# Altium integrated library Atmel Automotive.IntLib: 43 symbols (part 2 of 2)
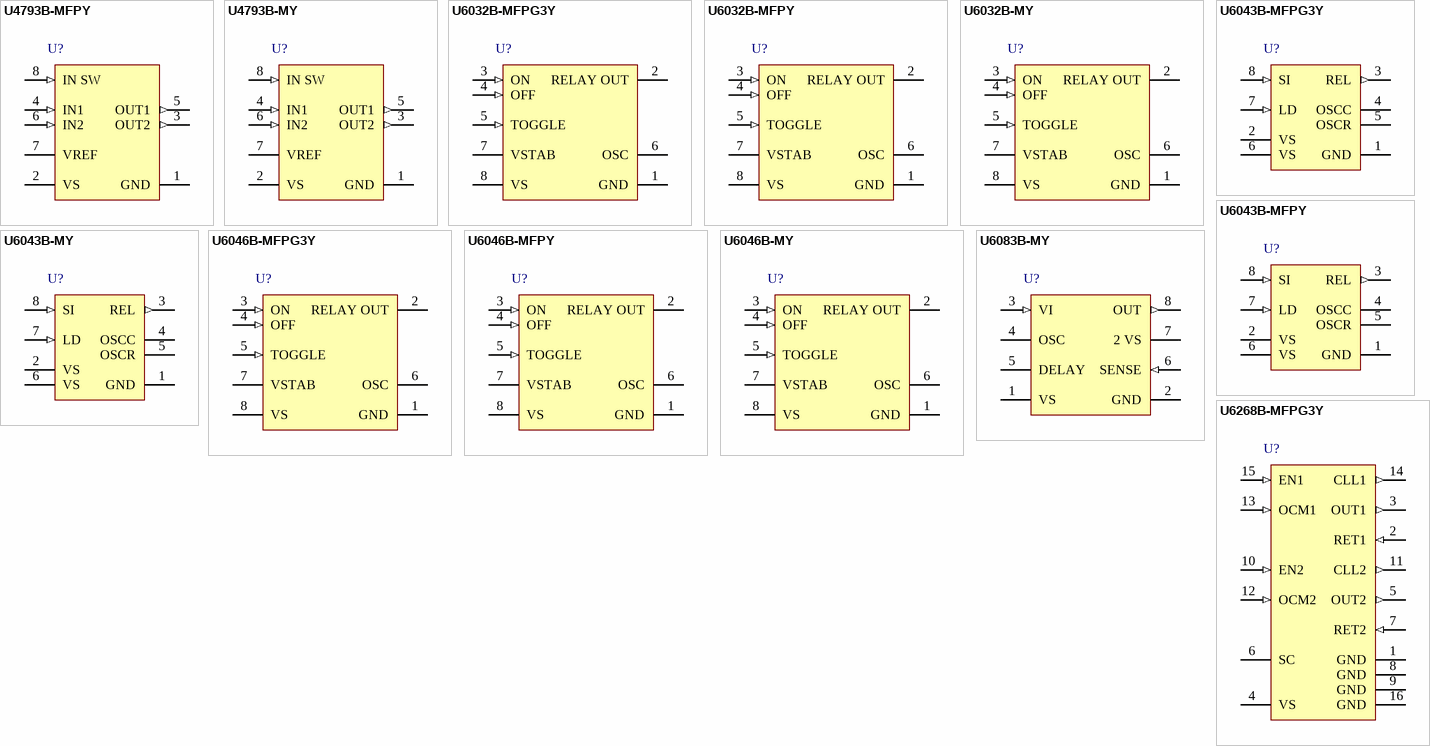
[diagram p2: symbols U4793B-MFPY to U6268B-MFPG3Y]

## U6046B-MFPY
designator U?
Rear Window Heating Timer/Long-Term Timer, SO8 Pkg, Tubed, Pb-Free; Published: 20-Sep-2010; DatasheetVersion: revB, Sep-2005; PackageVersion: rev1, Aug-2006; PackageReference: SO8; Publisher: Altium Limited; PackageDescription: 8-Pin Small Outline Integrated Circuit 1.27 mm Pitch; Supplier 1: Mouser; Supplier Part Number 1: 556-U6046BMFPY; ComponentLink1Description: Manufacturer Link; ComponentLink1URL: http://www.atmel.com/products/auto/default.asp?; ComponentLink2Description: U6046B Datasheet; ComponentLink2URL: http://www.atmel.com/dyn/resources/prod_documents/doc4674.pdf; ComponentLink3Description: Atmel.com Home; ComponentLink3URL: http://www.atmel.com
footprint SO8_N (SOIC, 8-Leads, Body 4.9x3.8mm, Pitch 1.27mm, IPC Medium Density)
footprint SO8_L (SOIC, 8-Leads, Body 4.9x3.8mm, Pitch 1.27mm, IPC High Density)
footprint SO8_M (SOIC, 8-Leads, Body 4.9x3.8mm, Pitch 1.27mm, IPC Low Density)
pins: 1 GND (power), 2 RELAY OUT (oc), 3 ON (in), 4 OFF (in), 5 TOGGLE (in), 6 OSC, 7 VSTAB (power), 8 VS (power)

## U6046B-MY
designator U?
Rear Window Heating Timer/Long-Term Timer, DIP8 Pkg, Pb-Free; Published: 20-Sep-2010; DatasheetVersion: revB, Sep-2005; PackageVersion: rev1, Jan-2002; PackageReference: DIP8; Publisher: Altium Limited; PackageDescription: DIP, 8-Pin, Row Spacing 7.62 mm, Pitch 2.54 mm; Supplier 1: Digi-Key; Supplier Part Number 1: U6046B-MY-ND; Supplier 2: Mouser; Supplier Part Number 2: 556-U6046BMY; ComponentLink1Description: Manufacturer Link; ComponentLink1URL: http://www.atmel.com/products/auto/default.asp?; ComponentLink2Description: U6046B Datasheet; ComponentLink2URL: http://www.atmel.com/dyn/resources/prod_documents/doc4674.pdf; ComponentLink3Description: Atmel.com Home; ComponentLink3URL: http://www.atmel.com
footprint DIP8 (DIP, 8-Leads, Row Spacing 7.62mm, Pitch 2.54mm, Body 9.65x6.3mm)
pins: 1 GND (power), 2 RELAY OUT (oc), 3 ON (in), 4 OFF (in), 5 TOGGLE (in), 6 OSC, 7 VSTAB (power), 8 VS (power)

## U6083B-MY
designator U?
PWM Power Control IC with Interference Suppression, DIP8 Pkg, Pb-Free; Published: 20-Sep-2010; DatasheetVersion: revB, Sep-2005; PackageVersion: rev1, Jan-2002; PackageReference: DIP8; Publisher: Altium Limited; PackageDescription: DIP, 8-Pin, Row Spacing 7.62 mm, Pitch 2.54 mm; Supplier 1: Digi-Key; Supplier Part Number 1: U6083B-MY-ND; Supplier 2: Mouser; Supplier Part Number 2: 556-U6083BMY; ComponentLink1Description: Manufacturer Link; ComponentLink1URL: http://www.atmel.com/products/auto/default.asp?; ComponentLink2Description: U6083B Datasheet; ComponentLink2URL: http://www.atmel.com/dyn/resources/prod_documents/doc4770.pdf; ComponentLink3Description: Atmel.com Home; ComponentLink3URL: http://www.atmel.com
footprint DIP8 (DIP, 8-Leads, Row Spacing 7.62mm, Pitch 2.54mm, Body 9.65x6.3mm)
pins: 1 VS (power), 2 GND (power), 3 VI (in), 4 OSC, 5 DELAY, 6 SENSE (in), 7 2 VS, 8 OUT (out)

## U6268B-MFPG3Y
designator U?
Side Airbag Sensor Dual Interface (Satellite Interface), SO16 Pkg, Taped and Reeled, Pb-Free; Published: 20-Sep-2010; DatasheetVersion: revB, Sep-2005; PackageVersion: 2007; PackageReference: SO16; Publisher: Altium Limited; PackageDescription: 16-Pin Small Outline Integrated Circuit 1.27 mm Pitch; Supplier 1: Digi-Key; Supplier Part Number 1: U6268B-MFPG3Y-ND; Supplier 2: Mouser; Supplier Part Number 2: 556-U6268BMFPG3Y; ComponentLink1Description: Manufacturer Link; ComponentLink1URL: http://www.atmel.com/products/auto/default.asp?; ComponentLink2Description: U6268B Datasheet; ComponentLink2URL: http://www.atmel.com/dyn/resources/prod_documents/doc4808.pdf; ComponentLink3Description: Atmel.com Home; ComponentLink3URL: http://www.atmel.com
footprint SO16_N (SOIC, 16-Leads, Body 9.9x3.8mm, Pitch 1.27mm, IPC Medium Density)
footprint SO16_L (SOIC, 16-Leads, Body 9.9x3.8mm, Pitch 1.27mm, IPC High Density)
footprint SO16_M (SOIC, 16-Leads, Body 9.9x3.8mm, Pitch 1.27mm, IPC Low Density)
pins: 1 GND (power), 2 RET1 (in), 3 OUT1 (out), 4 VS (power), 5 OUT2 (out), 6 SC, 7 RET2 (in), 8 GND (power), 9 GND (power), 10 EN2 (in), 11 CLL2 (out), 12 OCM2 (in), 13 OCM1 (in), 14 CLL1 (out), 15 EN1 (in), 16 GND (power)